# EAGLE library part ZIFF-050 (library pinhead)
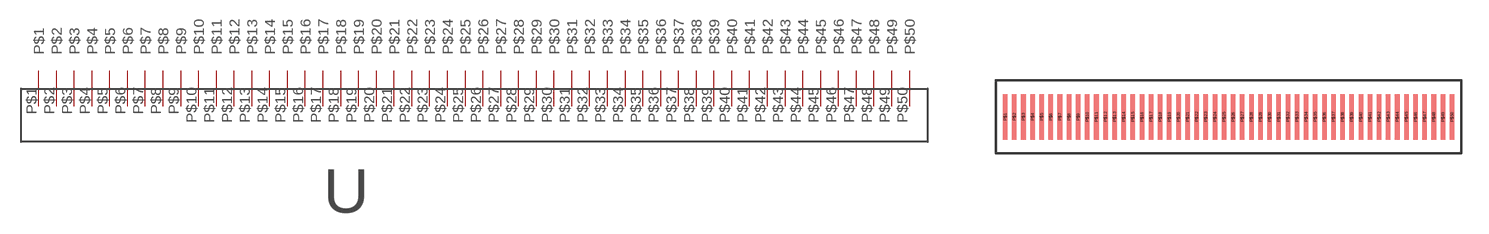
[diagram p44: symbol with the pads of ZIFF-050; footprint ZIFF-050]

Designator prefix -

## ZIFF-050  [ZIFF-050]
P$1  P$1
P$2  P$2
P$3  P$3
P$4  P$4
P$5  P$5
P$6  P$6
P$7  P$7
P$8  P$8
P$9  P$9
P$10  P$10
P$11  P$11
P$12  P$12
P$13  P$13
P$14  P$14
P$15  P$15
P$16  P$16
P$17  P$17
P$18  P$18
P$19  P$19
P$20  P$20
P$21  P$21
P$22  P$22
P$23  P$23
P$24  P$24
P$25  P$25
P$26  P$26
P$27  P$27
P$28  P$28
P$29  P$29
P$30  P$30
P$31  P$31
P$32  P$32
P$33  P$33
P$34  P$34
P$35  P$35
P$36  P$36
P$37  P$37
P$38  P$38
P$39  P$39
P$40  P$40
P$41  P$41
P$42  P$42
P$43  P$43
P$44  P$44
P$45  P$45
P$46  P$46
P$47  P$47
P$48  P$48
P$49  P$49
P$50  P$50

## Footprint ZIFF-050 (pad centres in mm)
smd 0.25 x 2.5: P$1 -12,0; P$2 -11.5,0; P$3 -11,0; P$4 -10.5,0; P$5 -10,0; P$6 -9.5,0; P$7 -9,0; P$8 -8.5,0; P$9 -8,0; P$10 -7.5,0; P$11 -7,0; P$12 -6.5,0; P$13 -6,0; P$14 -5.5,0; P$15 -5,0; P$16 -4.5,0; P$17 -4,0; P$18 -3.5,0; P$19 -3,0; P$20 -2.5,0; P$21 -2,0; P$22 -1.5,0; P$23 -1,0; P$24 -0.5,0; P$25 0,0; P$26 0.5,0; P$27 1,0; P$28 1.5,0; P$29 2,0; P$30 2.5,0; P$31 3,0; P$32 3.5,0; P$33 4,0; P$34 4.5,0; P$35 5,0; P$36 5.5,0; P$37 6,0; P$38 6.5,0; P$39 7,0; P$40 7.5,0; P$41 8,0; P$42 8.5,0; P$43 9,0; P$44 9.5,0; P$45 10,0; P$46 10.5,0; P$47 11,0; P$48 11.5,0; P$49 12,0; P$50 12.5,0